# Altium footprint library WL-STTW.PcbLib: 1 footprints
Each footprint in its own frame and in the unit in brackets; x right, y up, seen from the top. Pads: shape width x height; smd on the part's side, far side on the other; paste and mask are expansions set on the pad; w line width, h text height; cw(c..) or ccw(c..) is an arc to the next point about the centre after c.
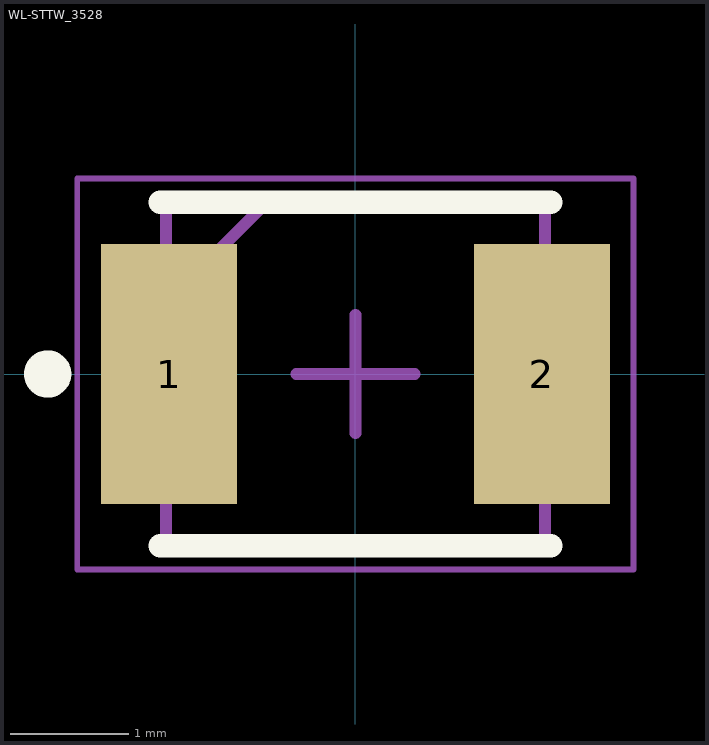
[diagram p0: the footprint, top view; thin cyan lines are the x and y axes]

## WL-STTW_3528 [mm] "SMT Phototransistor Top Waterclear, body 3.2x2.8mm"
height 2
pads (2):
  rect 1.15x2.2 smd: 1(-1.575,0) 2(1.575,0)
Top Overlay:
  circle w0.2: c-2.6,0 r0.1
  lines w0.2: -1.65,-1.45 1.65,-1.45 ; -1.65,1.45 1.65,1.45
Top Assembly:
  lines w0.1: -1.6,0.6 -0.8,1.4 ; -1.6,-1.4 1.6,-1.4 1.6,1.4 -1.6,1.4 -1.6,-1.4
Top Designator:
  text ".Designator" at -3.647,-0.357 h1
Top 3D Body:
  lines w0.1: -1.6,0.6 -0.8,1.4 ; -1.6,-1.4 1.6,-1.4 1.6,1.4 -1.6,1.4 -1.6,-1.4
Top Courtyard:
  lines w0.05: -2.35,-1.65 2.35,-1.65 2.35,1.65 -2.35,1.65 -2.35,-1.65
Top Component Center:
  lines w0.1: -0.5,0 0.5,0 ; 0,-0.5 0,0.5
3D body "1541411NBA210_HV.stp": height 1.9, standoff 0, extent -1.75,-1.4 1.75,1.4